# Altium footprint library 6502_lib.PcbLib: 9 footprints
Each footprint in its own frame and in the unit in brackets; x right, y up, seen from the top. Pads: shape width x height; smd on the part's side, far side on the other; paste and mask are expansions set on the pad; w line width, h text height; cw(c..) or ccw(c..) is an arc to the next point about the centre after c.
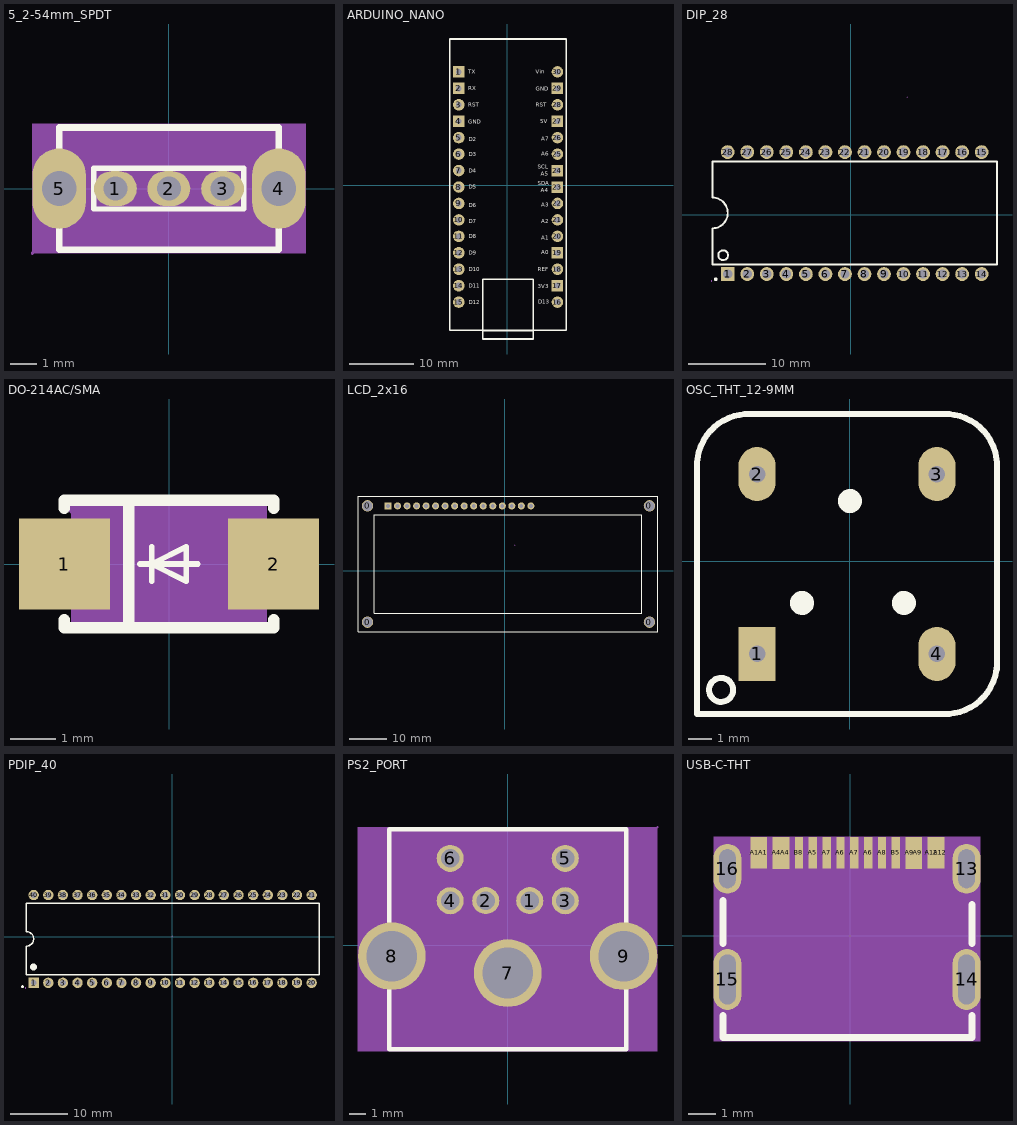
[diagram p0: the footprints below, top view; thin cyan lines are the x and y axes]

## 5_2-54mm_SPDT [mm]
pads (5):
  oval 1.6x1.3 hole 0.9: 1(-1.993,0) 2(0,0) 3(2.007,0)
  oval 2x3 hole 1.3: 4(4.107,0) 5(-4.093,0)
Top Overlay:
  lines w0.203: -2.795,-0.762 -1.779,-0.762 1.777,-0.762 2.793,-0.762 2.793,0.762 1.777,0.762 -1.779,0.762 -2.795,0.762 -2.795,-0.762
  lines w0.254: -4.093,-2.286 -4.093,2.286 ; -4.057,-2.286 0.007,-2.286 4.071,-2.286 ; -4.057,2.286 0.007,2.286 4.071,2.286 ; 4.106,-2.286 4.106,2.286
Mechanical 4:
  region: -5.093,2.413 5.107,2.413 5.107,-2.413 -5.093,-2.413
Mechanical 5:
  circle w0.55: c-4.093,0 r0.275
  circle w0.55: c4.107,0 r0.275
  circle w0.35: c0,0 r0.175
  circle w0.35: c2.007,0 r0.175
  circle w0.35: c-1.993,0 r0.175
Mechanical 6:
  circle w0.06: c-5.093,-2.413 r0.03
Mechanical 15:
  lines w0.003: -0.034,0.563 0.017,0.614
3D body: height 4.7, standoff 0, extent -5.08,-2.413 5.08,2.413
3D body: height 8, standoff 4.7, extent -2.794,-1.27 -0.889,1.27

## ARDUINO_NANO [mil]
pads (30):
  rect 70x70 hole 36: 1(-295,690) 2(-295,590) 4(-295,390) 17(305,-610) 19(305,-410) 23(305,-10) 24(305,90) 27(305,390) 29(305,590)
  round 70 hole 36: 3(-295,490) 5(-295,290) 6(-295,190) 7(-295,90) 8(-295,-10) 9(-295,-110) 10(-295,-210) 11(-295,-310) 12(-295,-410) 13(-295,-510) 14(-295,-610) 15(-295,-710) 16(305,-710) 18(305,-510) 20(305,-310) 21(305,-210) 22(305,-110) 25(305,190) 26(305,290) 28(305,490) 30(305,690)
Top Overlay:
  lines w10: -146.46,-882.87 153.54,-882.87 ; -350,-881.65 358.66,-881.65 358.66,890 -350,890 -350,-881.65 ; -150,-934.17 157.09,-934.17 157.09,-570 -150,-570 -150,-934.17
  text "RX" at -236.06,578.94 h23.62
  text "TX" at -236.06,678.94 h23.62
  text "RST" at -236.06,478.94 h23.62
  text "GND" at -236.06,373.94 h23.62
  text "D2" at -235,268.19 h23.62
  text "D3" at -235,178.19 h23.62
  text "D4" at -235,78.19 h23.62
  text "D5" at -235,-21.81 h23.62
  text "D6" at -235,-131.81 h23.62
  text "D7" at -235,-231.81 h23.62
  text "D8" at -235,-321.81 h23.62
  text "D9" at -235,-421.81 h23.62
  text "D10" at -235,-521.81 h23.62
  text "D11" at -235,-621.81 h23.62
  text "D12" at -235,-721.81 h23.62
  text "Vin" at 173.8,679.07 h23.62
  text "GND" at 173.94,573.94 h23.62
  text "RST" at 173.94,478.94 h23.62
  text "5V" at 198.94,378.94 h23.62
  text "A7" at 205,270.29 h23.62
  text "A6" at 205,180.29 h23.62
  text "A5" at 203.94,58.94 h23.62
  text "A4" at 203.94,-41.06 h23.62
  text "A3" at 205,-129.71 h23.62
  text "A2" at 205,-229.71 h23.62
  text "A0" at 205,-419.71 h23.62
  text "REF" at 183.94,-521.06 h23.62
  text "3V3" at 183.94,-626.06 h23.62
  text "D13" at 188.94,-721.06 h23.62
  text "SCL" at 185,100.29 h23.62
  text "SDA" at 185,0.29 h23.62
  text "A1" at 205,-329.71 h23.62
3D body "Conn_SAMTEC_TSW-115-07-G-S_eec.STEP": height 10, standoff 0, extent -351.5,-771.42 -238.5,751.42
3D body "Conn_SAMTEC_TSW-115-07-G-S_eec.STEP": height 10, standoff 0, extent 248.5,-771.42 361.5,751.42
3D body: height 433.07, standoff 275.59, extent -150,-935 155,-570
3D body: height 275.59, standoff 236.22, extent -345,-880 360,890

## DIP_28 [mm]
pads (28):
  rect 1.8x1.8 hole 1.2: 1(-15.972,-7.71)
  round 1.8 hole 1.2: 2(-13.432,-7.71) 3(-10.892,-7.71) 4(-8.352,-7.71) 5(-5.812,-7.71) 6(-3.272,-7.71) 7(-0.732,-7.71) 8(1.808,-7.71) 9(4.348,-7.71) 10(6.888,-7.71) 11(9.428,-7.71) 12(11.968,-7.71) 13(14.508,-7.71) 14(17.048,-7.71) 15(17.048,8.139) 16(14.508,8.139) 17(11.968,8.139) 18(9.428,8.139) 19(6.888,8.139) 20(4.348,8.139) 21(1.808,8.139) 22(-0.732,8.139) 23(-3.272,8.139) 24(-5.812,8.139) 25(-8.352,8.139) 26(-10.892,8.139) 27(-13.432,8.139) 28(-15.972,8.139)
Top Overlay:
  circle w0.254: c-16.562,-5.26 r0.635
  circle w0.25: c-17.526,-8.382 r0.125
  lines w0.254: -17.962,-6.474 -17.962,-1.76 ccw(c-17.962,0.24) -17.962,2.24 -17.962,6.906 19.038,6.906 19.038,-6.474 -17.962,-6.474
Mechanical 5:
  circle w0.5: c-15.972,-7.71 r0.25
  circle w0.5: c-0.732,-7.71 r0.25
  circle w0.5: c-13.432,-7.71 r0.25
  circle w0.5: c-10.892,-7.71 r0.25
  circle w0.5: c-8.352,-7.71 r0.25
  circle w0.5: c-5.812,-7.71 r0.25
  circle w0.5: c-3.272,-7.71 r0.25
  circle w0.5: c1.808,-7.71 r0.25
  circle w0.5: c4.348,-7.71 r0.25
  circle w0.5: c6.888,-7.71 r0.25
  circle w0.5: c9.428,-7.71 r0.25
  circle w0.5: c11.968,-7.71 r0.25
  circle w0.5: c14.508,-7.71 r0.25
  circle w0.5: c17.048,-7.71 r0.25
  circle w0.5: c17.048,8.139 r0.25
  circle w0.5: c14.508,8.139 r0.25
  circle w0.5: c11.968,8.139 r0.25
  circle w0.5: c9.428,8.139 r0.25
  circle w0.5: c6.888,8.139 r0.25
  circle w0.5: c4.348,8.139 r0.25
  circle w0.5: c1.808,8.139 r0.25
  circle w0.5: c-0.732,8.139 r0.25
  circle w0.5: c-3.272,8.139 r0.25
  circle w0.5: c-5.812,8.139 r0.25
  circle w0.5: c-8.352,8.139 r0.25
  circle w0.5: c-10.892,8.139 r0.25
  circle w0.5: c-13.432,8.139 r0.25
  circle w0.5: c-15.972,8.139 r0.25
Mechanical 6:
  circle w0.06: c-18.089,-8.61 r0.03
Mechanical 15:
  lines w0.003: 7.356,15.288 7.406,15.339
3D body: height 4.83, standoff 0, extent -18.669,-6.421 19.431,6.929

## DO-214AC/SMA [mm]
pads (2):
  rect 2x2 smd: 1(-2.302,0.003) 2(2.298,0.003)
Top Overlay:
  lines w0.127: -0.637,0.003 0.633,0.003 ; -0.383,-0.378 -0.383,0.003 ; -0.383,0.384 -0.383,0.003 ; -0.383,0.003 0.379,0.384 0.379,0.003 0.379,-0.378 -0.383,0.003
  lines w0.254: -2.302,-1.228 -2.302,-1.397 2.298,-1.397 2.298,-1.228 ; -2.302,1.234 -2.302,1.403 2.298,1.403 2.298,1.234 ; -0.891,-1.397 -0.891,1.403
Mechanical 4:
  region: -2.15,-1.332 -2.15,1.338 2.145,1.338 2.145,-1.332
Mechanical 5:
  region: -1.4,0.573 -1.4,-0.567 -2.15,-0.567 -2.15,0.573
  region: 2.145,0.573 2.145,-0.567 1.395,-0.567 1.395,0.573
Mechanical 6:
  circle w0.12: c-2.09,1.211 r0.06
Mechanical 15:
  region: 2.993,0.031 1.615,0.031 1.615,0.139 1.718,0.145 2.985,0.143 2.989,0.147 2.989,0.035 2.991,0.033
  region: 2.279,0.45 2.279,-0.422 2.281,-0.424 2.388,-0.424 2.393,-0.419 2.393,0.45 2.388,0.455 2.271,0.455
  region: -2.982,-0.154 -2.985,-0.137 -2.985,0.079 -1.621,0.077 -1.612,0.056 -1.612,-0.161
3D body: height 1.3, standoff 0, extent -2.286,-1.397 2.286,1.397

## LCD_2x16 [mil]
pads (20):
  round 120 hole 100 slot 100.2 at 0 deg: 0(-1440,-540) 0(-1440,680) 0(1520,-540) 0(1520,680)
  rect 74x74 hole 40: 1(-1225,680)
  round 74 hole 40: 2(-1125,680) 3(-1025,680) 4(-925,680) 5(-825,680) 6(-725,680) 7(-625,680) 8(-525,680) 9(-425,680) 10(-325,680) 11(-225,680) 12(-125,680) 13(-25,680) 14(75,680) 15(175,680) 16(275,680)
Top Overlay:
  lines w10: -1540,-639 1610,-639 1610,779 -1540,779 -1540,-639 ; -1369,-448 1439,-448 1439,588 -1369,588 -1369,-448
Mechanical 15:
  lines w0.1: 107.5,267.5 109.5,269.5
3D body: height 437.01, standoff 433.07, extent -1300,-370 1375,485
3D body: height 433.07, standoff 299.21, extent -1370,-445 1440,590
3D body: height 299.21, standoff 236.22, extent -1540,-640 1610,775
3D body: height 374.02, standoff 0, extent 49.62,654.47 100.6,705.55
3D body: height 374.02, standoff 0, extent -50.38,654.47 0.6,705.55
3D body: height 374.02, standoff 0, extent -150.38,654.47 -99.4,705.55
3D body: height 374.02, standoff 0, extent -250.38,654.47 -199.4,705.55
3D body: height 374.02, standoff 0, extent -350.38,654.47 -299.4,705.55
3D body: height 374.02, standoff 0, extent -450.38,654.47 -399.4,705.55
3D body: height 374.02, standoff 0, extent -550.38,654.47 -499.4,705.55
3D body: height 374.02, standoff 0, extent -650.38,654.47 -599.4,705.55
3D body: height 374.02, standoff 0, extent -750.38,654.47 -699.4,705.55
3D body: height 374.02, standoff 0, extent -850.38,654.47 -799.4,705.55
3D body: height 374.02, standoff 0, extent -950.38,654.47 -899.4,705.55
3D body: height 374.02, standoff 0, extent -1050.38,654.47 -999.4,705.55
3D body: height 374.02, standoff 0, extent -1150.38,654.47 -1099.4,705.55
3D body: height 374.02, standoff 0, extent -1250.38,654.47 -1199.4,705.55
3D body: height 236.22, standoff 177.16, extent -1300,620 335,735
3D body: height 374.02, standoff 0, extent 149.62,654.47 200.6,705.55
3D body: height 374.02, standoff 0, extent 249.62,654.47 300.6,705.55

## OSC_THT_12-9MM [mil]
pads (4):
  rect 62x90 hole 27.56: 1(-155,-155)
  oval 62x90 hole 27.56: 2(-155,145) 3(145,145) 4(145,-155)
Top Overlay:
  circle w20: c0,100 r10
  circle w20: c-80,-70 r10
  circle w20: c90,-70 r10
  circle w10: c-215,-215 r20
  lines w10: -255,165 cw(c-169.17,159.17) -175,245 ; -255,166.26 -255,-255 166.26,-255 ; -176.26,245 166.26,245 ; 165,-255 ccw(c159.17,-169.17) 245,-175 ; 165,245 cw(c159.17,159.17) 245,165 245,-180.67
3D body: height 31.5, standoff 0, extent -260.01,-260.01 250.01,250.01
3D body: height 220.47, standoff 10, extent -220,-215 200,190

## PDIP_40 [mm]
pads (40):
  rect 1.8x1.8 hole 1: 1(-24.1,-7.96)
  round 1.8 hole 1: 2(-21.56,-7.96) 3(-19.02,-7.96) 4(-16.48,-7.96) 5(-13.94,-7.96) 6(-11.4,-7.96) 7(-8.86,-7.96) 8(-6.32,-7.96) 9(-3.78,-7.96) 10(-1.24,-7.96) 11(1.3,-7.96) 12(3.84,-7.96) 13(6.38,-7.96) 14(8.92,-7.96) 15(11.46,-7.96) 16(14,-7.96) 17(16.54,-7.96) 18(19.08,-7.96) 19(21.62,-7.96) 20(24.16,-7.96) 21(24.16,7.28) 22(21.62,7.28) 23(19.08,7.28) 24(16.54,7.28) 25(14,7.28) 26(11.46,7.28) 27(8.92,7.28) 28(6.38,7.28) 29(3.84,7.28) 30(1.3,7.28) 31(-1.24,7.28) 32(-3.78,7.28) 33(-6.32,7.28) 34(-8.86,7.28) 35(-11.4,7.28) 36(-13.94,7.28) 37(-16.48,7.28) 38(-19.02,7.28) 39(-21.56,7.28) 40(-24.1,7.28)
Top Overlay:
  circle w0.6: c-24.13,-5.207 r0.3
  circle w0.25: c-26.035,-8.636 r0.125
  lines w0.254: -25.37,-6.562 25.43,-6.562 25.43,5.884 -25.37,5.884 -25.37,0.931 cw(c-25.37,-0.339) -25.37,-1.609 -25.37,-6.562
Mechanical 5:
  circle w0.4: c-24.1,7.28 r0.2
  circle w0.4: c-21.56,7.28 r0.2
  circle w0.4: c-19.02,7.28 r0.2
  circle w0.4: c-16.48,7.28 r0.2
  circle w0.4: c-13.94,7.28 r0.2
  circle w0.4: c-11.4,7.28 r0.2
  circle w0.4: c-8.86,7.28 r0.2
  circle w0.4: c-6.32,7.28 r0.2
  circle w0.4: c-3.78,7.28 r0.2
  circle w0.4: c-1.24,7.28 r0.2
  circle w0.4: c1.3,7.28 r0.2
  circle w0.4: c3.84,7.28 r0.2
  circle w0.4: c6.38,7.28 r0.2
  circle w0.4: c8.92,7.28 r0.2
  circle w0.4: c11.46,7.28 r0.2
  circle w0.4: c14,7.28 r0.2
  circle w0.4: c16.54,7.28 r0.2
  circle w0.4: c19.08,7.28 r0.2
  circle w0.4: c21.62,7.28 r0.2
  circle w0.4: c24.16,7.28 r0.2
  circle w0.4: c24.16,-7.96 r0.2
  circle w0.4: c21.62,-7.96 r0.2
  circle w0.4: c19.08,-7.96 r0.2
  circle w0.4: c16.54,-7.96 r0.2
  circle w0.4: c14,-7.96 r0.2
  circle w0.4: c11.46,-7.96 r0.2
  circle w0.4: c8.92,-7.96 r0.2
  circle w0.4: c6.38,-7.96 r0.2
  circle w0.4: c3.84,-7.96 r0.2
  circle w0.4: c1.3,-7.96 r0.2
  circle w0.4: c-1.24,-7.96 r0.2
  circle w0.4: c-3.78,-7.96 r0.2
  circle w0.4: c-6.32,-7.96 r0.2
  circle w0.4: c-8.86,-7.96 r0.2
  circle w0.4: c-11.4,-7.96 r0.2
  circle w0.4: c-13.94,-7.96 r0.2
  circle w0.4: c-16.48,-7.96 r0.2
  circle w0.4: c-19.02,-7.96 r0.2
  circle w0.4: c-21.56,-7.96 r0.2
  circle w0.4: c-24.1,-7.96 r0.2
Mechanical 6:
  circle w0.06: c-25.497,-8.86 r0.03
Mechanical 15:
  lines w0.003: -0.01,0.154 0.04,0.205
3D body: height 6.35, standoff 0, extent -26.649,-7.747 27.051,6.853

## PS2_PORT [mm]
pads (9):
  round 1.6 hole 1.1: 1(1.3,2.629) 2(-1.3,2.629) 3(3.401,2.624) 4(-3.401,2.624) 5(3.399,5.128) 6(-3.401,5.128)
  round 4 hole 3: 7(0,-1.651) 8(-6.85,-0.653) 9(6.85,-0.653)
Top Overlay:
  lines w0.254: -7,-6.152 7,-6.152 7,6.848 -7,6.848 -7,-6.152
Mechanical 4:
  region: -8.85,6.975 8.85,6.975 8.85,-6.279 -8.85,-6.279
Mechanical 5:
  circle w0.45: c1.3,2.629 r0.225
  circle w0.45: c-1.3,2.629 r0.225
  circle w0.45: c3.401,2.624 r0.225
  circle w0.45: c-3.401,2.624 r0.225
  circle w0.45: c3.399,5.128 r0.225
  circle w0.45: c-3.401,5.128 r0.225
  circle w1.4: c0,-1.651 r0.7
  circle w1.4: c-6.85,-0.653 r0.7
  circle w1.4: c6.85,-0.653 r0.7
Mechanical 6:
  circle w0.06: c8.85,6.975 r0.03
Mechanical 15:
  lines w0.003: -0.01,0.776 0.04,0.827
3D body: height 13, standoff 0, extent -8.763,-6.35 8.89,6.985

## USB-C-THT [mm]
pads (20):
  oval 1x1.8 hole 0.6 slot 1.4 at 90 deg: 13(4.195,2.413) 16(-4.445,2.413)
  oval 1x2.2 hole 0.6 slot 1.8 at 90 deg: 14(4.195,-1.587) 15(-4.445,-1.587)
  rect 0.3x1.15 smd: A1(-3.46,2.988) A1(-3.16,2.988) A4(-2.66,2.988) A4(-2.36,2.988) A5(-1.36,2.988) A6(-0.36,2.988) A6(0.64,2.988) A7(-0.86,2.988) A7(0.14,2.988) A8(1.14,2.988) A9(2.14,2.988) A9(2.44,2.988) A12(2.94,2.988) A12(3.24,2.988) B5(1.64,2.988) B8(-1.86,2.988)
Top Overlay:
  lines w0.254: -4.61,-2.887 -4.61,-3.687 4.39,-3.687 4.39,-2.884 ; -4.61,-0.287 -4.61,1.263 ; 4.39,-0.29 4.39,1.123
Mechanical 4:
  region: -4.945,3.563 4.695,3.563 4.695,-3.814 -4.945,-3.814
Mechanical 5:
  region: 3.695,-0.487 4.695,-0.487 4.695,-2.687 3.695,-2.687
  region: 3.695,3.313 4.695,3.313 4.695,1.513 3.695,1.513
  region: -4.945,3.313 -3.945,3.313 -3.945,1.513 -4.945,1.513
  region: -4.945,-0.487 -3.945,-0.487 -3.945,-2.687 -4.945,-2.687
  region: -2.01,3.563 -1.71,3.563 -1.71,2.413 -2.01,2.413
  region: -1.51,3.563 -1.21,3.563 -1.21,2.413 -1.51,2.413
  region: -3.31,3.563 -3.01,3.563 -3.01,2.413 -3.31,2.413
  region: -3.61,3.563 -3.31,3.563 -3.31,2.413 -3.61,2.413
  region: -2.51,3.563 -2.21,3.563 -2.21,2.413 -2.51,2.413
  region: -2.81,3.563 -2.51,3.563 -2.51,2.413 -2.81,2.413
  region: 2.29,3.563 2.59,3.563 2.59,2.413 2.29,2.413
  region: 1.99,3.563 2.29,3.563 2.29,2.413 1.99,2.413
  region: -1.01,3.563 -0.71,3.563 -0.71,2.413 -1.01,2.413
  region: -0.51,3.563 -0.21,3.563 -0.21,2.413 -0.51,2.413
  region: -0.01,3.563 0.29,3.563 0.29,2.413 -0.01,2.413
  region: 0.49,3.563 0.79,3.563 0.79,2.413 0.49,2.413
  region: 0.99,3.563 1.29,3.563 1.29,2.413 0.99,2.413
  region: 1.49,3.563 1.79,3.563 1.79,2.413 1.49,2.413
  region: 2.79,3.563 3.09,3.563 3.09,2.413 2.79,2.413
  region: 3.09,3.563 3.39,3.563 3.39,2.413 3.09,2.413
3D body "Conn_Global_Connector_Technology_USB4085-GF-A_eec.STEP": height 0.25, standoff 0, extent -5.002,-5.978 4.748,3.692